# Altium schematic symbol library SCH - POWER - LINEAR VREG - TOSHIBA TCR2EF.SchLib: 1 symbol
Pins are listed as number, name and electrical type; pins without a type are passive.

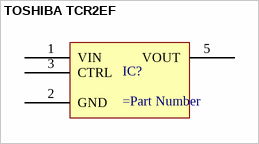
[diagram p0: symbol TOSHIBA TCR2EF]

## TOSHIBA TCR2EF
designator IC?
pins: 1 VIN, 2 GND, 3 CTRL, 5 VOUT